# EAGLE library part NRF24L01+ (library aurai)
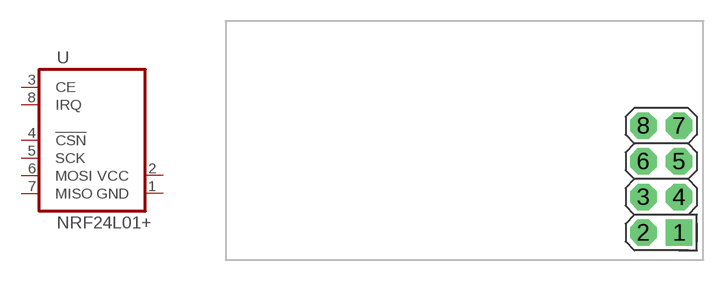
[diagram p1: symbol with the pads of NRF24L01_HEADER; footprint NRF24L01_HEADER]

Designator prefix U

## NRF24L01+  [NRF24L01_HEADER]
1  GND  pwr
2  VCC  pwr
3  CE  in
4  !CSN  in
5  SCK  out
6  MOSI  in
7  MISO  out
8  IRQ  out

## Footprint NRF24L01_HEADER (pad centres in mm)
Header for the cheap NRF24L01+ breakout boards from eBay
drill 1.016 pad 1.88 square: 1 1.27,-5.08
drill 1.016 pad 1.88 octagon: 2 -1.27,-5.08; 3 -1.27,-2.54; 4 1.27,-2.54; 5 1.27,0; 6 -1.27,0; 7 1.27,2.54; 8 -1.27,2.54